# EAGLE library part MSTBV-08 (library con-phoenix-500)
PHOENIX
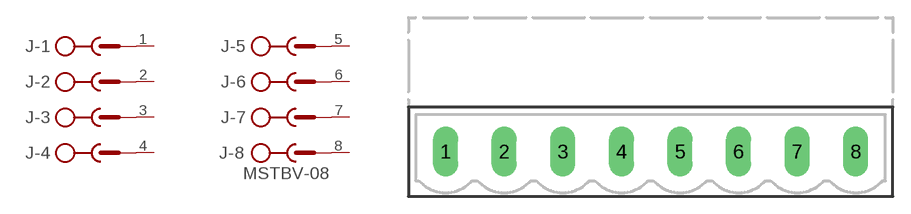
[diagram p1: symbol with the pads of MSTBV-08; footprint MSTBV-08]

Designator prefix J; gates -1=SK -2=SK -3=SK -4=SK -5=SK -6=SK -7=SK -8=SK+V

## MSTBV-08  [MSTBV-08]
1  -1:SK  pas
2  -2:SK  pas
3  -3:SK  pas
4  -4:SK  pas
5  -5:SK  pas
6  -6:SK  pas
7  -7:SK  pas
8  -8:SK  pas

## Footprint MSTBV-08 (pad centres in mm)
PHOENIX
drill 1.422 long: 1 -17.501,0; 2 -12.497,0; 3 -7.493,0; 4 -2.489,0; 5 2.515,0; 6 7.493,0; 7 12.497,0; 8 17.501,0